# EAGLE library part TRACO_DC_DC_24V_250MA (library EW_00_Ken)
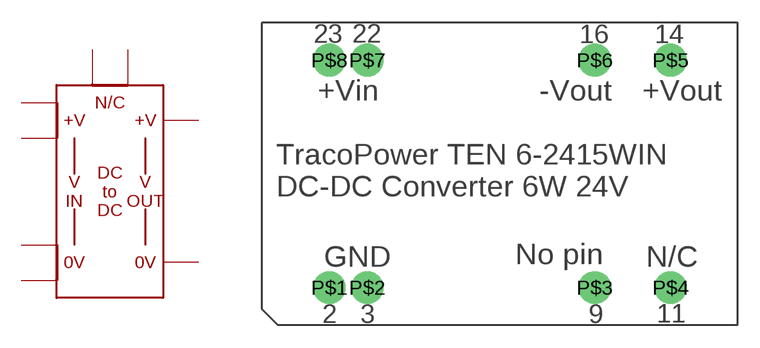
[diagram p19: symbol with the pads of TRACO_DC-DC_24V_250MA; footprint TRACO_DC-DC_24V_250MA]

Designator prefix DC-DC

## TRACO_DC_DC_24V_250MA  [TRACO_DC-DC_24V_250MA]
P$1  P$1
P$2  P$2
P$3  P$3
P$4  P$4
P$5  P$5
P$6  P$6
P$7  P$7
P$8  P$8

## Footprint TRACO_DC-DC_24V_250MA (pad centres in mm)
drill 0.8 pad 2.184: P$1 4.5,-7.62; P$2 7.04,-7.62; P$3 22.28,-7.62; P$4 27.36,-7.62; P$5 27.36,7.62; P$6 22.28,7.62; P$7 7.04,7.62; P$8 4.5,7.62